# EAGLE library part LM324AN/NOPB (library LM324AN_NOPB)
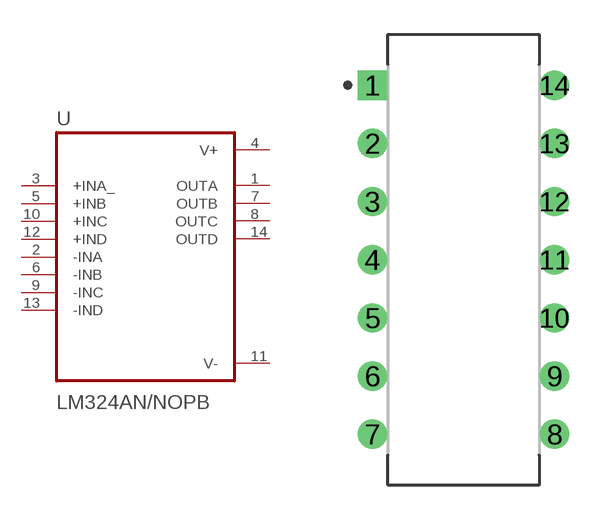
[diagram p0: symbol with the pads of DIP794W45P254L1969H508Q14; footprint DIP794W45P254L1969H508Q14]

Designator prefix U

## LM324AN/NOPB  [DIP794W45P254L1969H508Q14]
1  OUTA  out
2  -INA  in
3  +INA_  in
4  V+  pwr
5  +INB  in
6  -INB  in
7  OUTB  out
8  OUTC  out
9  -INC  in
10  +INC  in
11  V-  pwr
12  +IND  in
13  -IND  in
14  OUTD  out

## Footprint DIP794W45P254L1969H508Q14 (pad centres in mm)
drill 0.77 pad 1.17 square: 1 -3.97,7.62
drill 0.77 pad 1.17: 2 -3.97,5.08; 3 -3.97,2.54; 4 -3.97,0; 5 -3.97,-2.54; 6 -3.97,-5.08; 7 -3.97,-7.62; 8 3.97,-7.62; 9 3.97,-5.08; 10 3.97,-2.54; 11 3.97,0; 12 3.97,2.54; 13 3.97,5.08; 14 3.97,7.62